# Altium footprint library SparkFun-Resistors.PCBLIB: 38 footprints (part 1 of 3)
Each footprint in its own frame and in the unit in brackets; x right, y up, seen from the top. Pads: shape width x height; smd on the part's side, far side on the other; paste and mask are expansions set on the pad; w line width, h text height; cw(c..) or ccw(c..) is an arc to the next point about the centre after c.
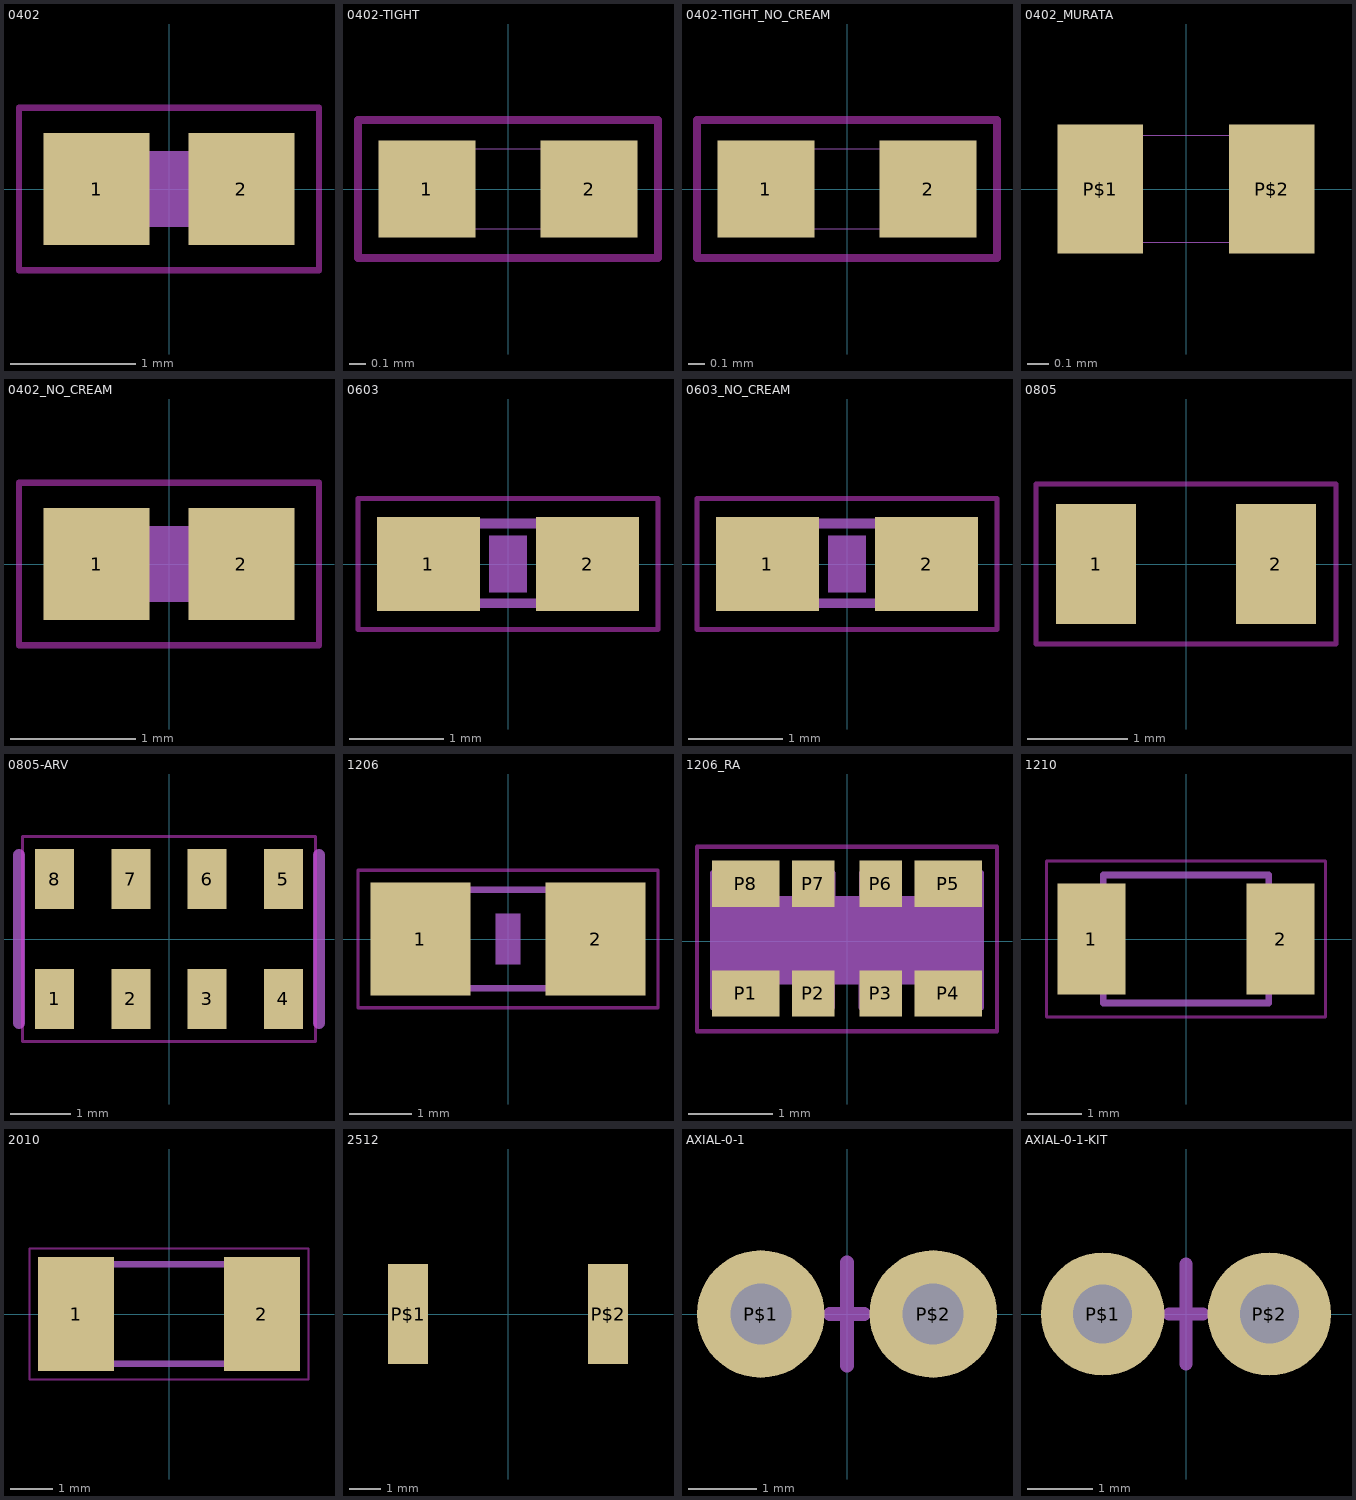
[diagram p0: the footprints below, top view; thin cyan lines are the x and y axes]

## 0402 [mm]
pads (2):
  rect 0.85x0.9 smd: 1(-0.58,0) 2(0.58,0)
Top keep-out:
  lines w0.051: -1.2,-0.65 1.2,-0.65 1.2,0.65 -1.2,0.65 -1.2,-0.65
tDocu:
  region: -0.554,-0.305 -0.554,0.305 -0.254,0.305 -0.254,-0.305
  region: 0.259,-0.305 0.259,0.305 0.559,0.305 0.559,-0.305
  lines w0.152: -0.271,-0.229 0.271,-0.229 ; -0.271,0.229 0.271,0.229
tGlue:
  region: -0.2,-0.3 -0.2,0.3 0.2,0.3 0.2,-0.3

## 0402-TIGHT [mm]
pads (2):
  rect 0.6x0.6 smd: 1(-0.5,0) 2(0.5,0)
Top keep-out:
  lines w0.05: -0.926,-0.426 -0.926,0.426 0.926,0.426 0.926,-0.426 -0.926,-0.426
tDocu:
  region: -0.5,-0.25 -0.5,0.25 -0.3,0.25 -0.3,-0.25
  region: 0.5,0.25 0.5,-0.25 0.3,-0.25 0.3,0.25
  lines w0.003: -0.5,-0.25 -0.5,0.25 0.5,0.25 0.5,-0.25 -0.5,-0.25

## 0402-TIGHT_NO_CREAM [mm]
pads (2):
  rect 0.6x0.6 smd paste+0: 1(-0.5,0) 2(0.5,0)
Top keep-out:
  lines w0.05: -0.926,-0.426 -0.926,0.426 0.926,0.426 0.926,-0.426 -0.926,-0.426
tDocu:
  region: -0.5,-0.25 -0.5,0.25 -0.3,0.25 -0.3,-0.25
  region: 0.5,0.25 0.5,-0.25 0.3,-0.25 0.3,0.25
  lines w0.003: -0.5,-0.25 -0.5,0.25 0.5,0.25 0.5,-0.25 -0.5,-0.25

## 0402_MURATA [mm]
pads (2):
  rect 0.4x0.6 smd mask+0: P$1(-0.4,0) P$2(0.4,0)
Top Solder:
  region: -0.6,-0.3 -0.6,0.3 -0.2,0.3 -0.2,-0.3
  region: 0.2,-0.3 0.2,0.3 0.6,0.3 0.6,-0.3
tDocu:
  region: -0.5,-0.25 -0.5,0.25 -0.3,0.25 -0.3,-0.25
  region: 0.5,0.25 0.5,-0.25 0.3,-0.25 0.3,0.25
  lines w0.003: -0.5,-0.25 -0.5,0.25 0.5,0.25 0.5,-0.25 -0.5,-0.25

## 0402_NO_CREAM [mm]
pads (2):
  rect 0.85x0.9 smd paste+0: 1(-0.58,0) 2(0.58,0)
Top keep-out:
  lines w0.051: -1.2,-0.65 1.2,-0.65 1.2,0.65 -1.2,0.65 -1.2,-0.65
tDocu:
  region: -0.554,-0.305 -0.554,0.305 -0.254,0.305 -0.254,-0.305
  region: 0.259,-0.305 0.259,0.305 0.559,0.305 0.559,-0.305
  lines w0.152: -0.271,-0.229 0.271,-0.229 ; -0.271,0.229 0.271,0.229
tGlue:
  region: -0.2,-0.3 -0.2,0.3 0.2,0.3 0.2,-0.3

## 0603 [mm]
pads (2):
  rect 1.1x1 smd: 1(-0.85,0) 2(0.85,0)
Top keep-out:
  lines w0.051: -1.6,-0.7 1.6,-0.7 1.6,0.7 -1.6,0.7 -1.6,-0.7
tDocu:
  region: -0.838,-0.47 -0.838,0.48 -0.338,0.48 -0.338,-0.47
  region: 0.33,-0.47 0.33,0.48 0.83,0.48 0.83,-0.47
  lines w0.102: -0.356,-0.419 0.356,-0.419 ; -0.356,0.432 0.356,0.432
tGlue:
  region: -0.2,-0.3 -0.2,0.3 0.2,0.3 0.2,-0.3

## 0603_NO_CREAM [mm]
pads (2):
  rect 1.1x1 smd paste+0: 1(-0.85,0) 2(0.85,0)
Top keep-out:
  lines w0.051: -1.6,-0.7 1.6,-0.7 1.6,0.7 -1.6,0.7 -1.6,-0.7
tDocu:
  region: -0.838,-0.47 -0.838,0.48 -0.338,0.48 -0.338,-0.47
  region: 0.33,-0.47 0.33,0.48 0.83,0.48 0.83,-0.47
  lines w0.102: -0.356,-0.419 0.356,-0.419 ; -0.356,0.432 0.356,0.432
tGlue:
  region: -0.2,-0.3 -0.2,0.3 0.2,0.3 0.2,-0.3

## 0805 [mil]
pads (2):
  rect 31.5x47.24 smd: 1(-35.43,0) 2(35.43,0)
Top keep-out:
  lines w2: -59.06,-31.5 59.06,-31.5 59.06,31.5 -59.06,31.5 -59.06,-31.5

## 0805-ARV [mm]
pads (8):
  rect 0.65x1 smd: 1(-1.905,-1) 2(-0.635,-1) 3(0.635,-1) 4(1.905,-1) 5(1.905,1) 6(0.635,1) 7(-0.635,1) 8(-1.905,1)
Top keep-out:
  lines w0.051: -2.438,-1.712 2.438,-1.712 2.438,1.712 -2.438,1.712 -2.438,-1.712
tPlace:
  lines w0.203: -2.5,-1.4 -2.5,1.4 ; 2.5,-1.4 2.5,1.4

## 1206 [mm]
pads (2):
  rect 1.6x1.8 smd: 1(-1.4,0) 2(1.4,0)
Top keep-out:
  lines w0.051: -2.4,-1.1 2.4,-1.1 2.4,1.1 -2.4,1.1 -2.4,-1.1
tDocu:
  region: -1.702,-0.851 -1.702,0.849 -0.952,0.849 -0.952,-0.851
  region: 0.952,-0.849 0.952,0.851 1.702,0.851 1.702,-0.849
  lines w0.102: -0.965,-0.787 0.965,-0.787 ; -0.965,0.787 0.965,0.787
tGlue:
  region: -0.2,-0.4 -0.2,0.4 0.2,0.4 0.2,-0.4

## 1206_RA [mm]
pads (8):
  rect 0.8x0.55 smd mask+0: P1(-1.2,-0.62) P4(1.2,-0.62) P5(1.2,0.68) P8(-1.2,0.68)
  rect 0.5x0.55 smd mask+0: P2(-0.4,-0.62) P3(0.4,-0.62) P6(0.4,0.68) P7(-0.4,0.68)
Top keep-out:
  lines w0.051: -1.778,-1.067 -1.778,1.118 1.778,1.118 1.778,-1.067 -1.778,-1.067
Top Solder:
  region: -1.62,0.38 -1.62,1 -0.78,1 -0.78,0.38
  region: -0.68,0.38 -0.68,1 -0.12,1 -0.12,0.38
  region: 0.12,0.38 0.12,1 0.68,1 0.68,0.38
  region: -1.62,-0.94 -1.62,-0.32 -0.78,-0.32 -0.78,-0.94
  region: -0.68,-0.94 -0.68,-0.32 -0.12,-0.32 -0.12,-0.94
  region: 0.12,-0.94 0.12,-0.32 0.68,-0.32 0.68,-0.94
  region: 0.78,-0.94 0.78,-0.3 1.62,-0.3 1.62,-0.94
  region: 0.78,0.38 0.78,1 1.62,1 1.62,0.38
tDocu:
  region: -1.59,-0.48 -1.59,0.52 1.61,0.52 1.61,-0.48
  lines w0.05: -1.6,-0.79 -0.95,-0.79 -0.95,-0.49 -0.62,-0.49 -0.62,-0.79 -0.17,-0.79 -0.17,-0.49 0.16,-0.49 0.16,-0.79 0.61,-0.79 0.61,-0.49 0.94,-0.49 0.94,-0.79 1.6,-0.79 1.6,0.81 0.95,0.81 0.95,0.51 0.62,0.51 0.62,0.81 0.17,0.81 0.17,0.51 -0.16,0.51 -0.16,0.81 -0.61,0.81 -0.61,0.51 -0.94,0.51 -0.94,0.81 -1.6,0.81
  lines w0.051: -1.6,-0.79 -1.6,0.81

## 1210 [mm]
pads (2):
  rect 1.27x2.06 smd: 1(-1.755,0) 2(1.755,0)
Top keep-out:
  lines w0.051: -2.59,-1.45 2.59,-1.45 2.59,1.45 -2.59,1.45 -2.59,-1.45
tDocu:
  lines w0.127: -1.536,-1.186 1.536,-1.186 1.536,1.186 -1.536,1.186 -1.536,-1.186

## 2010 [mm]
pads (2):
  rect 1.8x2.7 smd: 1(-2.2,0) 2(2.2,0)
Top keep-out:
  lines w0.051: -3.3,-1.55 3.3,-1.55 3.3,1.55 -3.3,1.55 -3.3,-1.55
tDocu:
  region: -2.5,-1.25 -2.5,1.25 -1.639,1.25 -1.639,-1.25
  region: 1.651,-1.25 1.651,1.25 2.5,1.25 2.5,-1.25
  lines w0.152: -1.789,1.174 1.789,1.174 ; -1.764,-1.174 1.814,-1.174

## 2512 [mm]
pads (2):
  rect 1.27x3.175 smd: P$1(-3.175,0) P$2(3.175,0)

## AXIAL-0-1 [mil]
pads (2):
  round 74 hole 35.43: P$1(-50,0) P$2(50,0)
tPlace:
  lines w8: -10,0 0,0 ; 0,-30 0,0 ; 0,30 0,0 ; 10,0 0,0

## AXIAL-0-1-KIT [mil]
pads (2):
  round 74 hole 35.43: P$1(-50,0) P$2(50,0)
Top Solder:
  circle w0: c-50,0 r18
  circle w0: c-50,0 r18
  circle w0: c50,0 r18
Bottom Solder:
  circle w0: c-50,0 r40
  circle w0: c50,0 r40
tPlace:
  lines w8: -10,0 0,0 ; 0,-30 0,0 ; 0,30 0,0 ; 10,0 0,0